# Altium schematic symbol library 1935174.SchLib: 1 symbol
Pins are listed as number, name and electrical type; pins without a type are passive.

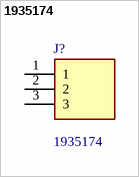
[diagram p0: symbol 1935174]

## 1935174
designator J?
PCB terminal block, Nominal current: 17.5 A, Nom. voltage: 400 V, Pitch: 5 mm, Number of positions: 3, Connection method: Screw connection with wire protector, Mounting: Wave soldering, Conductor/PCB connection direction: 0 , Color: green, Also possible: Connection of a 1.5 mm conductor with ferrule, then however with reduction in rated voltage or degree of pollution / surge category.; Manufacturer_Name: Phoenix Contact; Geometry.Height: 11.55mm; Mouser Part Number: 651-1935174; Mouser Price/Stock: https://www.mouser.co.uk/ProductDetail/Phoenix-Contact/1935174?qs=QWULklcAmSR8B7o4YouITA%3D%3D; Manufacturer_Part_Number: 1935174; Datasheet Link: *
footprint 1935174
pins: 1, 2, 3